# Altium schematic symbol library sch_lib_own_.SchLib: 22 symbols
Pins are listed as number, name and electrical type; pins without a type are passive.

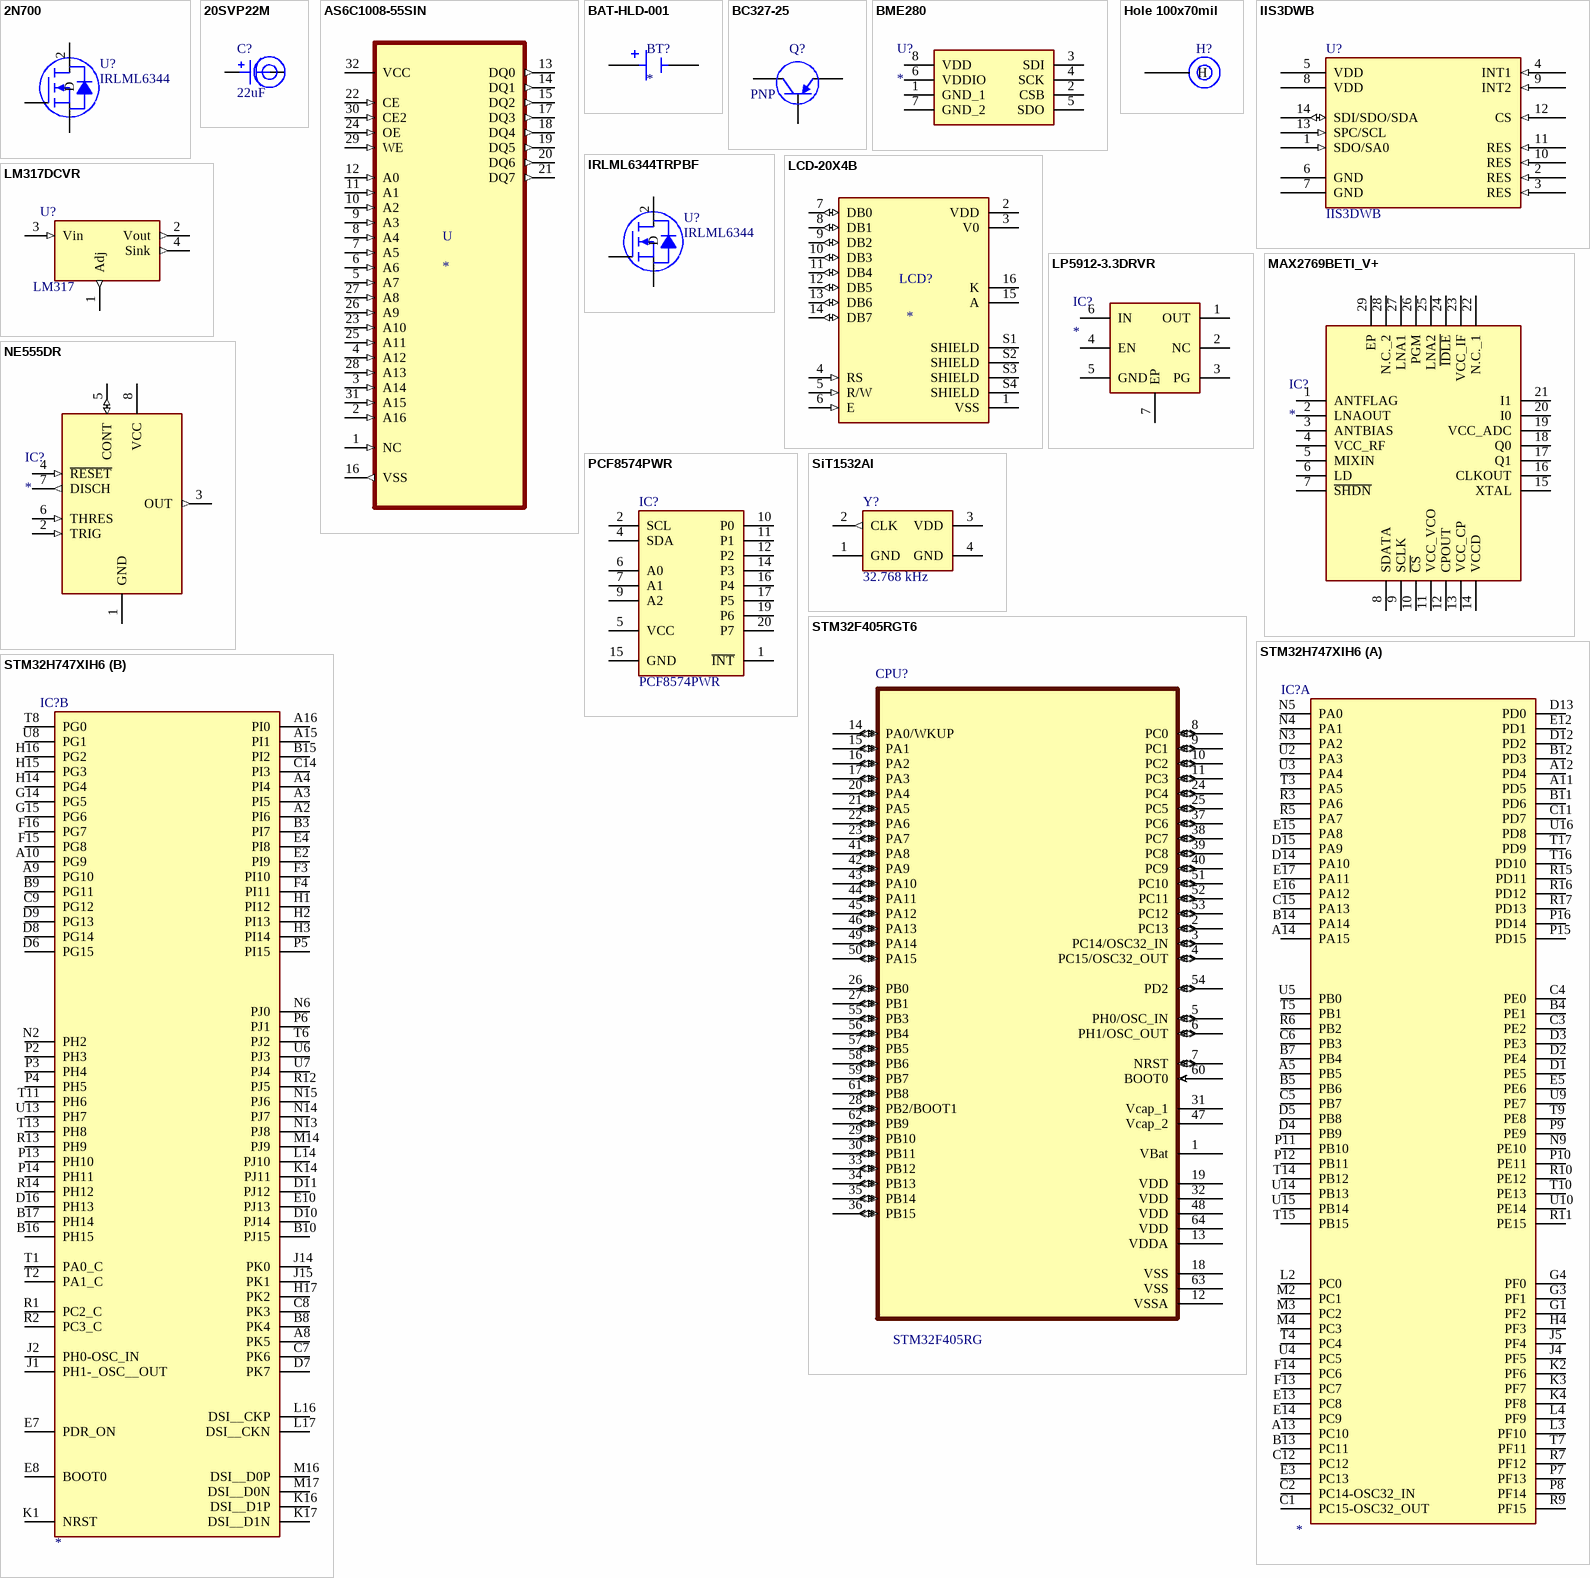
[diagram p0: symbols 2N700 to STM32H747XIH6]

## 2N700
designator U?, comment IRLML6344
N-Channel 60V 2A _Ta_ 400mW Surface Mount Micro SOT-23; MF: Infineon Technologies; MP: IRLML6344TRPBF; Package: SOT-23 Infineon; Value: *; Price: None; Availability: Unavailable; SnapEDA_Link: https://www.snapeda.com/parts/IRLML6344TRPBF/Infineon%20Technologies/view-part/1786730/?ref=snap
footprint SOT95P240X112-3N
pins: 1 G, 2 D, 3 S

## 20SVP22M
designator C?, comment 22uF
CAP POLYMER 4U7F 20% 16V SMD; Part Number: 20SVP22M; Manufacturer: Panasonic Electronic Components; TemperatureRange: -55C ~ 105C; Voltage: 20V; Ripple Current: 1.45A; Lifetime @ Temp: 2000 Hrs @ 105C; Value: 22uF; PartId: 7510; Supplier 1: Digi-Key; Supplier Part Number 1: P16492TR-ND; ComponentLink1Description: Datasheet; ComponentLink1URL: http://industrial.panasonic.com/www-cgi/jvcr13pz.cgi?E+CI+4+AAB8008+20SVP22M+8+WW; ComponentLink2Description: Digi-Key listing; ComponentLink2URL: http://digikey.com/product-detail/en/20SVP22M/P16492TR-ND/4204824; Tolerance: 20%; Price: 0.605; Type: -; Device Package: Radial, Can - SMD; Impedance: -
footprint CAP ALUM 6.6MM (Aluminum Electrolytic Capacitor, Body 6.60x6.60x7.70mm, IPC Low Density)
pins: 1, 2

## AS6C1008-55SIN
designator U
SRAM - Asynchronous Memory IC 1Mb _128K x 8_ Parallel 55ns 32-SOP; MP: AS6C1008-55SIN; MF: Alliance Memory,; Price: None; Package: SOP-32 Alliance Memory; Availability: Unavailable; SnapEDA_Link: https://www.snapeda.com/parts/AS6C1008-55SIN/Alliance%20Memory,%20Inc./view-part/31744/?ref=snap; Value: *
footprint SOIC127P1407X299-32N (Footprint not found)
footprint SOIC127P1407X299-32N
pins: 1 NC (in), 2 A16 (in), 3 A14 (in), 4 A12 (in), 5 A7 (in), 6 A6 (in), 7 A5 (in), 8 A4 (in), 9 A3 (in), 10 A2 (in), 11 A1 (in), 12 A0 (in), 13 DQ0 (out), 14 DQ1 (out), 15 DQ2 (out), 16 VSS (out), 17 DQ3 (out), 18 DQ4 (out), 19 DQ5 (out), 20 DQ6 (out), 21 DQ7 (out), 22 CE (in), 23 A10 (in), 24 OE (in), 25 A11 (in), 26 A9 (in), 27 A8 (in), 28 A13 (in), 29 WE (in), 30 CE2 (in), 31 A15 (in), 32 VCC (power)

## BAT-HLD-001
designator BT?
Battery Retainer Coin, 20.0mm 1 Cell SMD (SMT) Tab; MP: BAT-HLD-001; Value: *; Package: None; Availability: Unavailable; Price: None
footprint BAT_BAT-HLD-001
pins: N1 NEG, P1 POS, P2 POS

## BC327-25
designator Q?, comment PNP
PNP Bipolar Transistor; Published: 8-Jun-2000; LatestRevisionDate: 29-May-2009; LatestRevisionNote: IPC-7351 Footprint Added.; PackageVersion: Aug-1999; PackageReference: SOT-23B; Publisher: Altium Limited; PackageDescription: 3-Pin SOT-23 Package 0.95 mm Pitch, 2.4 mm Lead Span
footprint SOT-23B_N (SOT23, 3-Leads, Body 2.9x1.3mm, Pitch 0.95mm, Lead Span 2.4mm, IPC Medium Density)
footprint SOT-23B_L (SOT23, 3-Leads, Body 2.9x1.3mm, Pitch 0.95mm, Lead Span 2.4mm, IPC High Density)
footprint SOT-23B_M (SOT23, 3-Leads, Body 2.9x1.3mm, Pitch 0.95mm, Lead Span 2.4mm, IPC Low Density)
simulation model PNP
signal-integrity model PNP
footprint SOT-23B_N (SOT23, 3-Leads, Body 2.9x1.3mm, Pitch 0.95mm, Lead Span 2.4mm, IPC Medium Density)
pins: 1 C, 2 B, 3 E

## BME280
designator U?
MEMS humidity, pressure and temperature sensor
footprint BME280
pins: 1 GND_1, 2 CSB, 3 SDI, 4 SCK, 5 SDO, 6 VDDIO (power), 7 GND_2, 8 VDD (power)

## Hole 100x70mil
designator H?  (value not drawn)
100x70mil
footprint Hole 100x70mil
pins: 1 H (power)

## IIS3DWB
designator U?
3-axis digital vibration sensor
footprint PQFN50P250X300X86-14N
pins: 1 SDO/SA0 (in), 2 RES (in), 3 RES (in), 4 INT1 (in), 5 VDD, 6 GND, 7 GND, 8 VDD, 9 INT2 (in), 10 RES (in), 11 RES (in), 12 CS (in), 13 SPC/SCL (in), 14 SDI/SDO/SDA (io)

## IRLML6344TRPBF
designator U?, comment IRLML6344
N-Channel 30V 5A _Ta_ 1.3W _Ta_ Surface Mount Micro3â„¢/SOT-23; MF: Infineon Technologies; MP: IRLML6344TRPBF; Package: SOT-23 Infineon; Value: *; Price: None; Availability: Unavailable; SnapEDA_Link: https://www.snapeda.com/parts/IRLML6344TRPBF/Infineon%20Technologies/view-part/1786730/?ref=snap
footprint SOT95P240X112-3N
pins: 1 G, 2 D, 3 S

## LCD-20X4B
designator LCD?
Display Development Tools 20X4 CHARACTER BLUE LCD W/BACKLIGHT; MP: LCD-20X4B; Value: *; Availability: Unavailable; Price: None; Package: None
footprint LCD_LCD-20X4B
pins: 1 VSS (power), 2 VDD (power), 3 V0 (power), 4 RS (in), 5 R/W (in), 6 E (in), 7 DB0 (io), 8 DB1 (io), 9 DB2 (io), 10 DB3 (io), 11 DB4 (io), 12 DB5 (io), 13 DB6 (io), 14 DB7 (io), 15 A, 16 K, S1 SHIELD, S2 SHIELD, S3 SHIELD, S4 SHIELD

## LM317DCVR
designator U?, comment LM317
Adjustable voltage regulator, 1.5A, output range 1.25 - 37 V
footprint TI SOT-223 DCY (SOT223, 4-Leads, Body 6.50x7.00mm (avg), Pitch 2.30mm, IPC Medium Density)
pins: 1 Adj (out), 2 Vout (out), 3 Vin (in), 4 Sink (out)

## LP5912-3.3DRVR
designator IC?
IC Sensor TempHumPress 3.3V; Manufacturer_Name: Texas Instruments; Manufacturer_Part_Number: LP5912-3.3DRVR; Datasheet Link: http://www.ti.com/lit/gpn/lp5912; Height: 0.8mm; Mouser Part Number: 595-LP5912-3.3DRVR; Mouser Price/Stock: https://www.mouser.co.uk/ProductDetail/Texas-Instruments/LP5912-3.3DRVR?qs=n%252BTO0c4TDSY0RMrHlK%2FGvQ%3D%3D; Arrow Part Number: LP5912-3.3DRVR; Arrow Price/Stock: https://www.arrow.com/en/products/lp5912-3.3drvr/texas-instruments
footprint SON65P200X200X80-7N
pins: 1 OUT, 2 NC, 3 PG, 4 EN, 5 GND, 6 IN, 7 EP

## MAX2769BETI_V+
designator IC?
IC Unverseal GPS Receiver; Manufacturer_Name: Maxim Integrated; Manufacturer_Part_Number: MAX2769BETI/V+; Datasheet Link: https://pdfserv.maximintegrated.com/en/ds/MAX2769B.pdf; Height: 0.8mm; Mouser Part Number: 700-MAX2769BETI/V+; Mouser Price/Stock: https://www.mouser.com/Search/Refine.aspx?Keyword=700-MAX2769BETI%2FV%2B
footprint QFN50P500X500X80-29N
footprint QFN50P500X500X80-29N
pins: 1 ANTFLAG, 2 LNAOUT, 3 ANTBIAS, 4 VCC_RF, 5 MIXIN, 6 LD, 7 ~{SHDN}, 8 SDATA, 9 SCLK, 10 ~{CS}, 11 VCC_VCO, 12 CPOUT, 13 VCC_CP, 14 VCCD, 15 XTAL, 16 CLKOUT, 17 Q1, 18 Q0, 19 VCC_ADC, 20 I0, 21 I1, 22 N.C._1, 23 VCC_IF, 24 ~{IDLE}, 25 LNA2, 26 PGM, 27 LNA1, 28 N.C._2, 29 EP

## NE555DR
designator IC?
IC Timer/Oscillator (Single); Manufacturer_Name: Texas Instruments; Manufacturer_Part_Number: NE555DR; Datasheet Link: http://www.ti.com/lit/ds/symlink/ne555.pdf; Height: 1.75mm; Mouser Part Number: 595-NE555DR; Mouser Price/Stock: https://www.mouser.com/Search/Refine.aspx?Keyword=595-NE555DR; RS Part Number: 1218414; RS Price/Stock: http://uk.rs-online.com/web/p/products/1218414
footprint SOIC127P600X175-8N
pins: 1 GND (power), 2 TRIG (in), 3 OUT (out), 4 ~{RESET} (in), 5 CONT (io), 6 THRES (in), 7 DISCH (out), 8 VCC (power)

## PCF8574PWR
designator IC?
IC Input/output (I/O) expander; Manufacturer_Name: Texas Instruments; Datasheet Link: http://www.ti.com/lit/ds/symlink/pcf8574.pdf; Height: 1.2mm; Manufacturer_Part_Number: PCF8574PWR; Mouser Part Number: 595-PCF8574PWR; Mouser Price/Stock: https://www.mouser.co.uk/ProductDetail/Texas-Instruments/PCF8574PWR?qs=X1HXWTtiZ0T3gnyuO%2Fq4CA%3D%3D; Arrow Part Number: PCF8574PWR; Arrow Price/Stock: https://www.arrow.com/en/products/pcf8574pwr/texas-instruments?region=nac
footprint SOP65P640X120-20N
pins: 1 ~{INT}, 2 SCL, 4 SDA, 5 VCC, 6 A0, 7 A1, 9 A2, 10 P0, 11 P1, 12 P2, 14 P3, 15 GND, 16 P4, 17 P5, 19 P6, 20 P7

## SiT1532AI
designator Y?, comment 32.768 kHz
Oscilator 32.768KHz, SiT1532AI-J4-DCC-32.768E
footprint SiT1532AIJ4DCC32768E - duplicate
pins: 1 GND, 2 CLK (out), 3 VDD, 4 GND

## STM32F405RGT6
designator CPU?, comment STM32F405RG
CPU
footprint LQF64
pins: 1 VBat, 2 PC13 (io), 3 PC14/OSC32_IN (io), 4 PC15/OSC32_OUT (io), 5 PH0/OSC_IN (io), 6 PH1/OSC_OUT (io), 7 NRST (io), 8 PC0 (io), 9 PC1 (io), 10 PC2 (io), 11 PC3 (io), 12 VSSA (power), 13 VDDA, 14 PA0/WKUP (io), 15 PA1 (io), 16 PA2 (io), 17 PA3 (io), 18 VSS, 19 VDD, 20 PA4 (io), 21 PA5 (io), 22 PA6 (io), 23 PA7 (io), 24 PC4 (io), 25 PC5 (io), 26 PB0 (io), 27 PB1 (io), 28 PB2/BOOT1 (io), 29 PB10 (io), 30 PB11 (io), 31 Vcap_1 (power), 32 VDD, 33 PB12 (io), 34 PB13 (io), 35 PB14 (io), 36 PB15 (io), 37 PC6 (io), 38 PC7 (io), 39 PC8 (io), 40 PC9 (io), 41 PA8 (io), 42 PA9 (io), 43 PA10 (io), 44 PA11 (io), 45 PA12 (io), 46 PA13 (io), 47 Vcap_2, 48 VDD, 49 PA14 (io), 50 PA15 (io), 51 PC10 (io), 52 PC11 (io), 53 PC12 (io), 54 PD2 (io), 55 PB3 (io), 56 PB4 (io), 57 PB5 (io), 58 PB6 (io), 59 PB7 (io), 60 BOOT0 (in), 61 PB8 (io), 62 PB9 (io), 63 VSS, 64 VDD

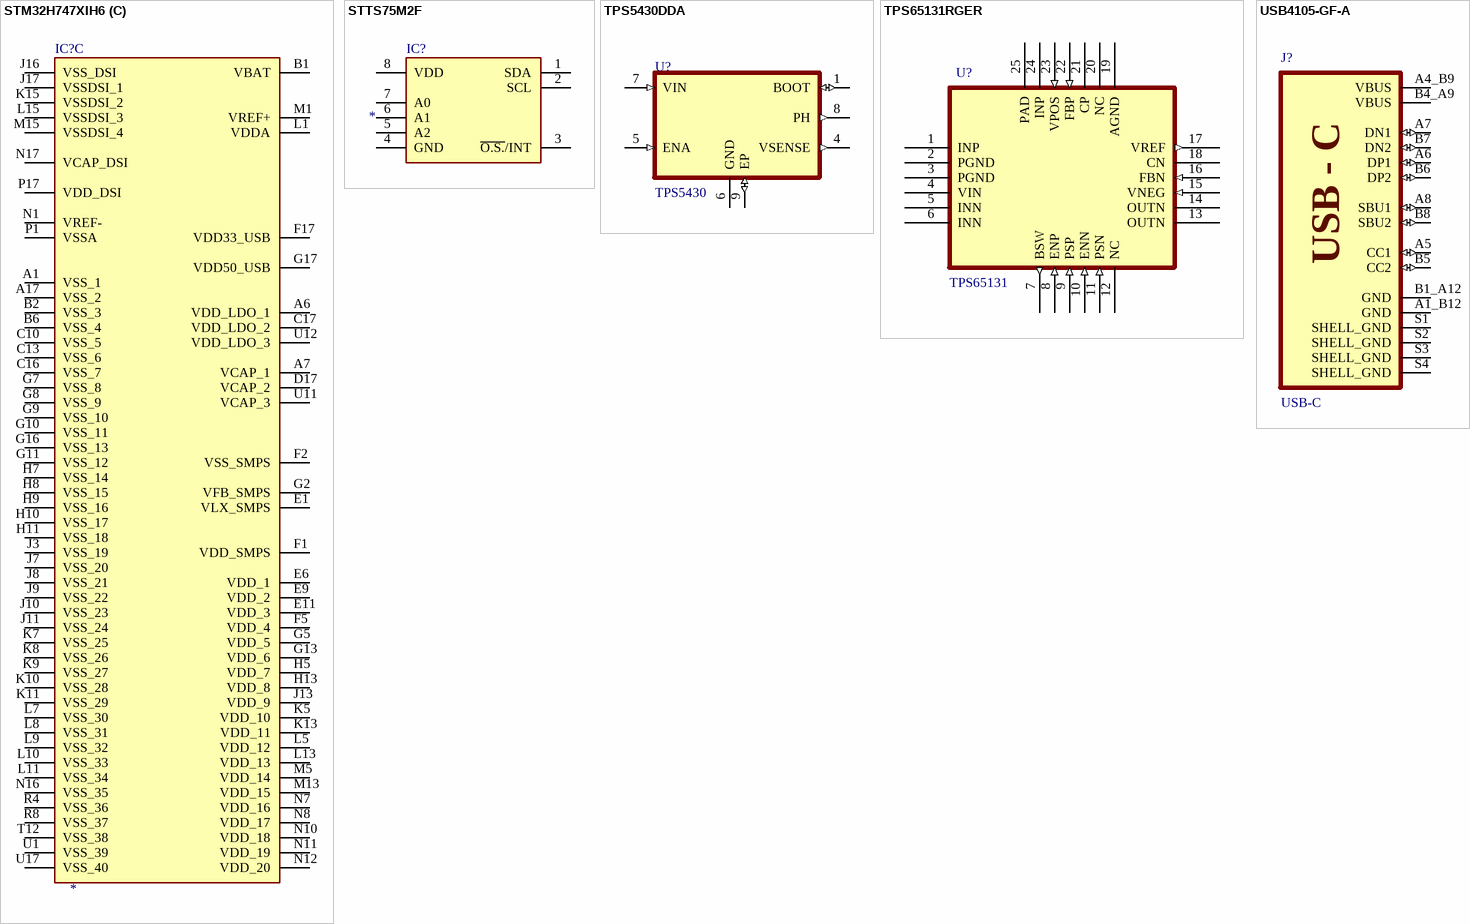
[diagram p1: symbols STM32H747XIH6 to USB4105-GF-A]

## STM32H747XIH6
designator IC?
CPU Dual core. • 32-bit Arm® Cortex®-M7; Manufacturer_Name: STMicroelectronics; Manufacturer_Part_Number: STM32H747XIH6; Datasheet Link: https://www.st.com/en/microcontrollers-microprocessors/stm32h747xi.html; Height: 1.1mm; Mouser Part Number: 511-STM32H747XIH6; Mouser Price/Stock: https://www.mouser.co.uk/ProductDetail/STMicroelectronics/STM32H747XIH6?qs=vLWxofP3U2xQGncZcDDLHQ%3D%3D; Arrow Part Number: STM32H747XIH6; Arrow Price/Stock: https://www.arrow.com/en/products/stm32h747xih6/stmicroelectronics?region=nac
footprint BGA265C80P17X17_1400X1400X110
part A pins: A5 PB5, A11 PD5, A12 PD4, A13 PC10, A14 PA15, B4 PE1, B5 PB6, B7 PB4, B11 PD6, B12 PD3, B13 PC11, B14 PA14, C1 PC15-OSC32_OUT, C2 PC14-OSC32_IN, C3 PE2, C4 PE0, C5 PB7, C6 PB3, C11 PD7, C12 PC12, C15 PA13, D1 PE5, D2 PE4, D3 PE3, D4 PB9, D5 PB8, D12 PD2, D13 PD0, D14 PA10, D15 PA9, E3 PC13, E5 PE6, E12 PD1, E13 PC8, E14 PC9, E15 PA8, E16 PA12, E17 PA11, F13 PC7, F14 PC6, G1 PF2, G3 PF1, G4 PF0, H4 PF3, J4 PF5, J5 PF4, K2 PF6, K3 PF7, K4 PF8, L2 PC0, L3 PF10, L4 PF9, M2 PC1, M3 PC2, M4 PC3, N3 PA2, N4 PA1, N5 PA0, N9 PE10, P7 PF13, P8 PF14, P9 PE9, P10 PE11, P11 PB10, P12 PB11, P15 PD15, P16 PD14, R3 PA6, R5 PA7, R6 PB2, R7 PF12, R9 PF15, R10 PE12, R11 PE15, R15 PD11, R16 PD12, R17 PD13, T3 PA5, T4 PC4, T5 PB1, T7 PF11, T9 PE8, T10 PE13, T14 PB12, T15 PB15, T16 PD10, T17 PD9, U2 PA3, U3 PA4, U4 PC5, U5 PB0, U9 PE7, U10 PE14, U14 PB13, U15 PB14, U16 PD8
part B pins: A2 PI6, A3 PI5, A4 PI4, A8 PK5, A9 PG10, A10 PG9, A15 PI1, A16 PI0, B3 PI7, B8 PK4, B9 PG11, B10 PJ15, B15 PI2, B16 PH15, B17 PH14, C7 PK6, C8 PK3, C9 PG12, C14 PI3, D6 PG15, D7 PK7, D8 PG14, D9 PG13, D10 PJ14, D11 PJ12, D16 PH13, E2 PI9, E4 PI8, E7 PDR_ON, E8 BOOT0, E10 PJ13, F3 PI10, F4 PI11, F15 PG8, F16 PG7, G14 PG5, G15 PG6, H1 PI12, H2 PI13, H3 PI14, H14 PG4, H15 PG3, H16 PG2, H17 PK2, J1 PH1-_OSC__OUT, J2 PH0-OSC_IN, J14 PK0, J15 PK1, K1 NRST, K14 PJ11, K16 DSI__D1P, K17 DSI__D1N, L14 PJ10, L16 DSI__CKP, L17 DSI__CKN, M14 PJ9, M16 DSI__D0P, M17 DSI__D0N, N2 PH2, N6 PJ0, N13 PJ8, N14 PJ7, N15 PJ6, P2 PH3, P3 PH4, P4 PH5, P5 PI15, P6 PJ1, P13 PH10, P14 PH11, R1 PC2_C, R2 PC3_C, R12 PJ5, R13 PH9, R14 PH12, T1 PA0_C, T2 PA1_C, T6 PJ2, T8 PG0, T11 PH6, T13 PH8, U6 PJ3, U7 PJ4, U8 PG1, U13 PH7
part C pins: A1 VSS_1, A6 VDD_LDO_1, A7 VCAP_1, A17 VSS_2, B1 VBAT, B2 VSS_3, B6 VSS_4, C10 VSS_5, C13 VSS_6, C16 VSS_7, C17 VDD_LDO_2, D17 VCAP_2, E1 VLX_SMPS, E6 VDD_1, E9 VDD_2, E11 VDD_3, F1 VDD_SMPS, F2 VSS_SMPS, F5 VDD_4, F17 VDD33_USB, G2 VFB_SMPS, G5 VDD_5, G7 VSS_8, G8 VSS_9, G9 VSS_10, G10 VSS_11, G11 VSS_12, G13 VDD_6, G16 VSS_13, G17 VDD50_USB, H5 VDD_7, H7 VSS_14, H8 VSS_15, H9 VSS_16, H10 VSS_17, H11 VSS_18, H13 VDD_8, J3 VSS_19, J7 VSS_20, J8 VSS_21, J9 VSS_22, J10 VSS_23, J11 VSS_24, J13 VDD_9, J16 VSS_DSI, J17 VSSDSI_1, K5 VDD_10, K7 VSS_25, K8 VSS_26, K9 VSS_27, K10 VSS_28, K11 VSS_29, K13 VDD_11, K15 VSSDSI_2, L1 VDDA, L5 VDD_12, L7 VSS_30, L8 VSS_31, L9 VSS_32, L10 VSS_33, L11 VSS_34, L13 VDD_13, L15 VSSDSI_3, M1 VREF+, M5 VDD_14, M13 VDD_15, M15 VSSDSI_4, N1 VREF-, N7 VDD_16, N8 VDD_17, N10 VDD_18, N11 VDD_19, N12 VDD_20, N16 VSS_35, N17 VCAP_DSI, P1 VSSA, P17 VDD_DSI, R4 VSS_36, R8 VSS_37, T12 VSS_38, U1 VSS_39, U11 VCAP_3, U12 VDD_LDO_3, U17 VSS_40

## STTS75M2F
designator IC?
IC Temperature sensor; Manufacturer_Name: STMicroelectronics; Manufacturer_Part_Number: STTS75M2F; Datasheet Link: http://www.st.com/st-web-ui/static/active/en/resource/technical/document/datasheet/CD00153513.pdf; Height: 1.75mm; Mouser Part Number: 511-STTS75M2F; Mouser Price/Stock: https://www.mouser.com/Search/Refine.aspx?Keyword=511-STTS75M2F; Arrow Part Number: STTS75M2F; Arrow Price/Stock: https://www.arrow.com/en/products/stts75m2f/stmicroelectronics
footprint SOIC127P600X175-8N
footprint SOIC127P600X175-8N
pins: 1 SDA, 2 SCL, 3 ~{O.S.}/INT, 4 GND, 5 A2, 6 A1, 7 A0, 8 VDD

## TPS5430DDA
designator U?, comment TPS5430
CONVERTER 5.5V-36 to 5.5V; MF: Texas Instruments; MP: TPS5430DDA; Availability: Unavailable; Mouser-Purchase-URL: https://snapeda.com/shop?store=Mouser&id=226174; Texas_Instruments-Purchase-URL: https://snapeda.com/shop?store=Texas+Instruments&id=226174; Package: HSOIC-8 Texas Instruments; Price: None; SnapEDA_Link: https://www.snapeda.com/parts/TPS5430DDA/Texas%20Instruments/view-part/226174/?ref=snap; DigiKey-Purchase-URL: https://snapeda.com/shop?store=DigiKey&id=226174; Value: *
footprint VREG_LM5017MR/NOPB
pins: 1 BOOT (io), 4 VSENSE (out), 5 ENA (in), 6 GND (power), 7 VIN (in), 8 PH (out), 9 EP (io)

## TPS65131RGER
designator U?, comment TPS65131
Split-Rail Converter with Dual, Positive and Negative Outputs (750mA typ); MF: Texas Instruments; MP: TPS65131RGER; Purchase-URL: https://pricing.snapeda.com/search/part/TPS65131RGER/?ref=eda; Package: QFN-24 Texas Instruments; Availability: In Stock; Check_prices: https://www.snapeda.com/parts/TPS65131RGER/Texas+Instruments/view-part/?ref=eda; Price: None; SnapEDA_Link: https://www.snapeda.com/parts/TPS65131RGER/Texas+Instruments/view-part/?ref=snap; Value: *
footprint VQFN24
pins: 1 INP (power), 2 PGND (power), 3 PGND (power), 4 VIN (power), 5 INN (power), 6 INN (power), 7 BSW (out), 8 ENP (in), 9 PSP (in), 10 ENN (in), 11 PSN (in), 12 NC, 13 OUTN (power), 14 OUTN (power), 15 VNEG (in), 16 FBN (in), 17 VREF (out), 18 CN, 19 AGND (power), 20 NC, 21 CP, 22 FBP (in), 23 VPOS (in), 24 INP (power), 25 PAD (power)

## USB4105-GF-A
designator J?, comment USB-C
USB-C (USB TYPE-C) USB 2.0 Receptacle Connector 24 (16+8 Dummy) Position Surface Mount, Right Angle; Through Hole; MP: USB4105-GF-A; Value: *; Availability: Unavailable; Price: None; Package: None
footprint GCT_USB4105-GF-A
pins: A1_B12 GND (power), A4_B9 VBUS (power), A5 CC1 (io), A6 DP1 (io), A7 DN1 (io), A8 SBU1 (io), B1_A12 GND (power), B4_A9 VBUS (power), B5 CC2 (io), B6 DP2 (io), B7 DN2 (io), B8 SBU2 (io), S1 SHELL_GND (power), S2 SHELL_GND (power), S3 SHELL_GND (power), S4 SHELL_GND (power)
text: USB - C